# Altium footprint library FP-SMD-Passive.PcbLib: 73 footprints (part 4 of 5)
Each footprint in its own frame and in the unit in brackets; x right, y up, seen from the top. Pads: shape width x height; smd on the part's side, far side on the other; paste and mask are expansions set on the pad; w line width, h text height; cw(c..) or ccw(c..) is an arc to the next point about the centre after c.
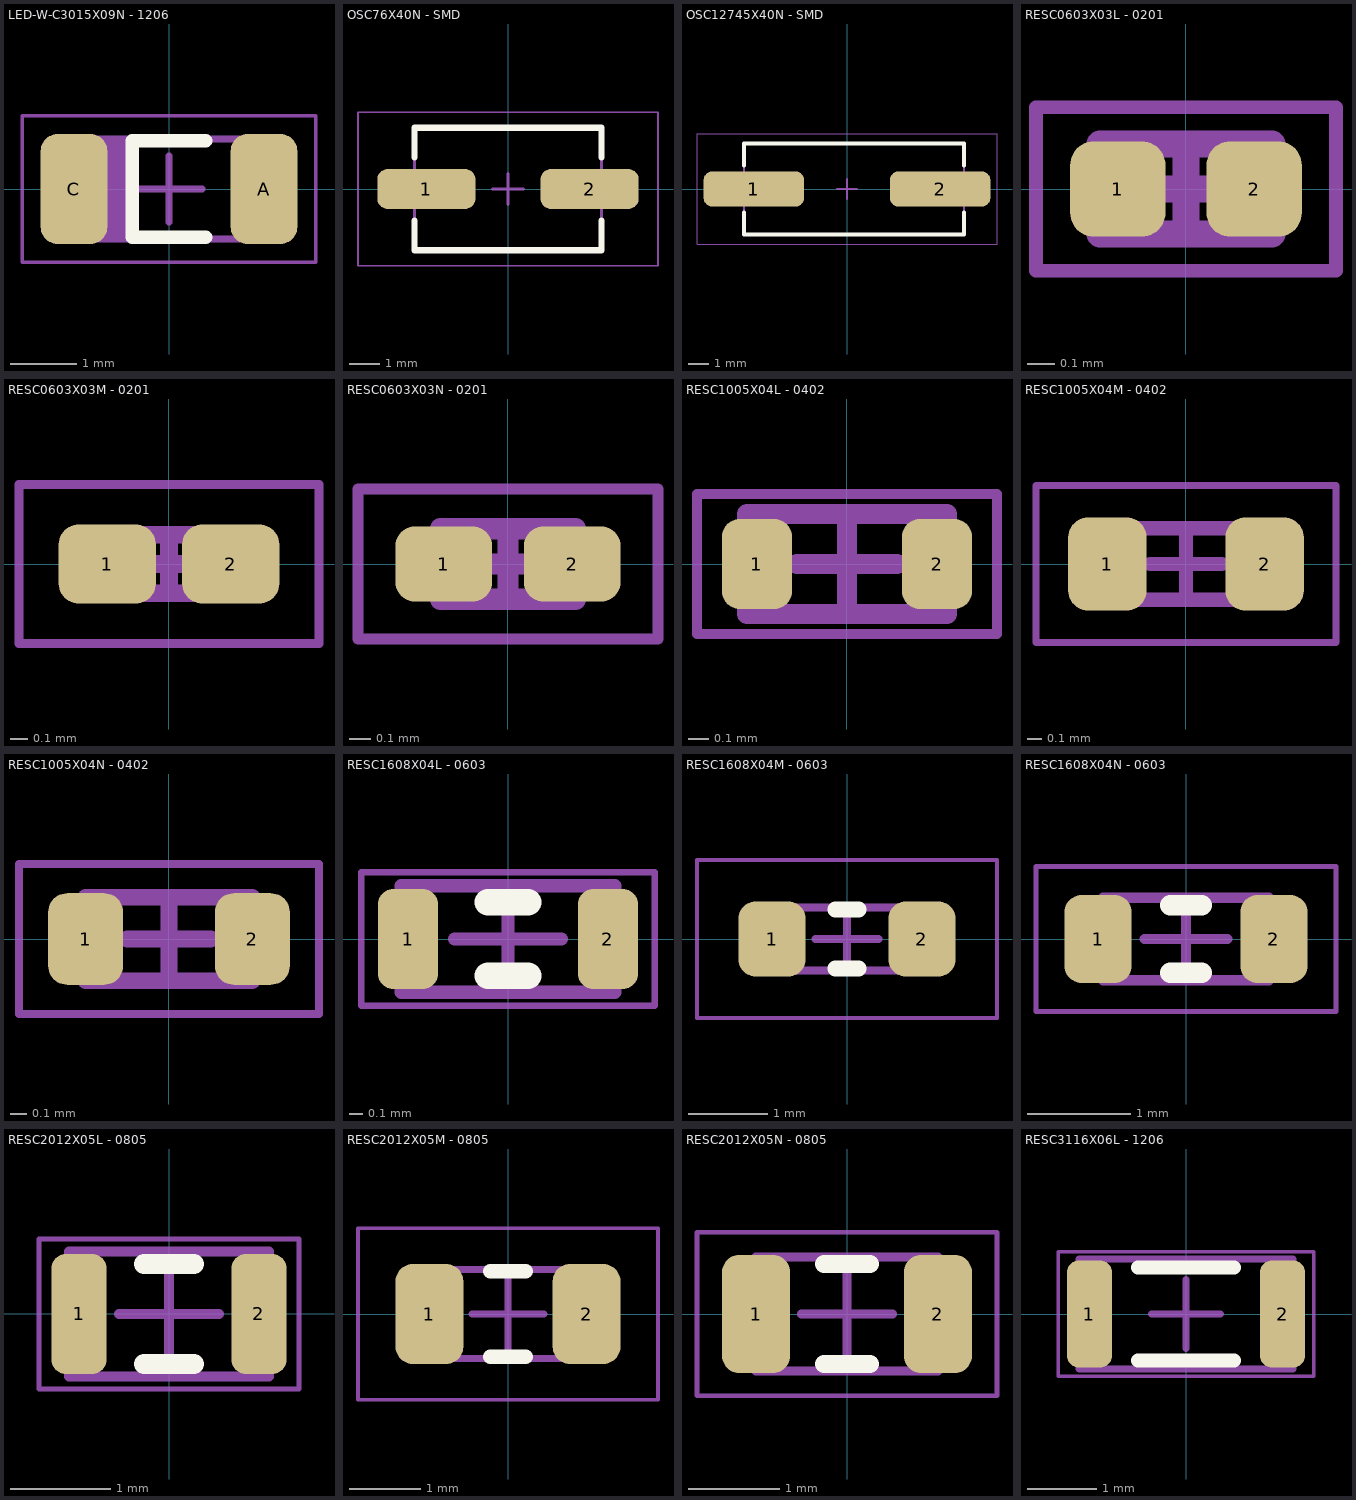
[diagram p3: the footprints below, top view; thin cyan lines are the x and y axes]

## LED-W-C3015X09N - 1206 [mm] "Chip LED, 2-Leads, Body 3/00x1/50mm, IPC Medium Density"
height 0.9
pads (2):
  rrect50% 1x1.65 smd: A(1.425,0) C(-1.425,0)
Top Overlay:
  lines w0.2: 0.55,-0.725 -0.55,-0.725 -0.55,0.725 0.55,0.725
Top Courtyard:
  lines w0.05: -2.2,-1.1 2.2,-1.1 2.2,1.1 -2.2,1.1 -2.2,-1.1
  lines w0.1: -0.5,0 0.5,0 ; 0,-0.5 0,0.5
Top Assembly:
  rectangle: -1.5,-0.762 -0.635,0.75
  lines w0.1: -1.5,-0.75 1.5,-0.75 1.5,0.75 -1.5,0.75 -1.5,-0.75
  text "'.Designator'" at 0.12,0.353 h0.7
3D body "LED SMD 1206 - W.STEP": height 1.1, standoff 0, extent -1.6,-0.8 1.6,0.8

## OSC76X40N - SMD [mm]
height 2.1
pads (2):
  rrect50% 3.2x1.3 smd: 1(-2.667,0) 2(2.667,0)
Top Overlay:
  lines w0.2: -3.05,-1.025 -3.05,-2 3.05,-2 3.05,-1.025 ; -3.05,1.025 -3.05,2 3.05,2 3.05,1.025
Top Courtyard:
  lines w0.05: -4.9,-2.5 4.9,-2.5 4.9,2.5 -4.9,2.5 -4.9,-2.5
  lines w0.1: -0.5,0 0.5,0 ; 0,-0.5 0,0.5
Top Assembly:
  lines w0.1: -3.05,-2 -3.05,2 3.05,2 3.05,-2 -3.05,-2
  text "'.Designator'" at 0.185,0.755 h1.52
3D body "User Library-CSM-3X.STEP": height 2.35, standoff 0.05, extent -3.8,-2.05 3.8,2.05

## OSC12745X40N - SMD [mm] "SMD Crystal Body 11/55x4/50x4/00mm, IPC Medium Density"
height 4
pads (2):
  rrect50% 5x1.75 smd: 1(-4.625,0) 2(4.625,0)
Top Overlay:
  lines w0.2: -5.112,-1.175 -5.112,-2.25 5.8,-2.25 5.8,-1.175 ; -5.112,1.175 -5.112,2.25 5.8,2.25 5.8,1.175
Top Courtyard:
  lines w0.05: -7.45,-2.75 7.45,-2.75 7.45,2.75 -7.45,2.75 -7.45,-2.75
  lines w0.1: -0.5,0 0.5,0 ; 0,-0.5 0,0.5
Top Assembly:
  lines w0.1: -5.112,-2.25 -5.112,2.25 5.8,2.25 5.8,-2.25 -5.112,-2.25
  text "'.Designator'" at 0.312,0.755 h1.52
3D body "smdcrystal.STEP": height 3.85, standoff 0, extent -6.79,-2.4 6.79,2.4

## RESC0603X03L - 0201 [mm] "Chip Resistor, 2-Leads, Body 0/60x0/30mm, IPC High Density"
height 0.26
pads (2):
  rrect50% 0.35x0.35 smd: 1(-0.25,0) 2(0.25,0)
Top Courtyard:
  lines w0.05: -0.55,-0.3 -0.55,0.3 0.55,0.3 0.55,-0.3 -0.55,-0.3
  lines w0.1: -0.165,0 0.165,0 ; 0,-0.165 0,0.165
Top Assembly:
  lines w0.1: -0.315,-0.165 -0.315,0.165 0.315,0.165 0.315,-0.165 -0.315,-0.165
  text "'.Designator'" at 0.1,0.3 h0.6
3D body "RESC0603X03L.step": height 0.26, standoff 0, extent -0.315,-0.165 0.315,0.165

## RESC0603X03M - 0201 [mm] "Chip Resistor, 2-Leads, Body 0/60x0/30mm, IPC Low Density"
height 0.26
pads (2):
  rrect50% 0.55x0.45 smd: 1(-0.35,0) 2(0.35,0)
Top Courtyard:
  lines w0.05: -0.85,-0.45 -0.85,0.45 0.85,0.45 0.85,-0.45 -0.85,-0.45
  lines w0.1: -0.165,0 0.165,0 ; 0,-0.165 0,0.165
Top Assembly:
  lines w0.1: -0.315,-0.165 -0.315,0.165 0.315,0.165 0.315,-0.165 -0.315,-0.165
  text "'.Designator'" at 0.1,0.3 h0.6
3D body "RESC0603X03M.step": height 0.26, standoff 0, extent -0.315,-0.165 0.315,0.165

## RESC0603X03N - 0201 [mm] "Chip Resistor, 2-Leads, Body 0/60x0/30mm, IPC Medium Density"
height 0.26
pads (2):
  rrect50% 0.45x0.35 smd: 1(-0.3,0) 2(0.3,0)
Top Courtyard:
  lines w0.05: -0.7,-0.35 -0.7,0.35 0.7,0.35 0.7,-0.35 -0.7,-0.35
  lines w0.1: -0.165,0 0.165,0 ; 0,-0.165 0,0.165
Top Assembly:
  lines w0.1: -0.315,-0.165 -0.315,0.165 0.315,0.165 0.315,-0.165 -0.315,-0.165
  text "'.Designator'" at 0.1,0.3 h0.6
3D body "RESC0603X03N.step": height 0.26, standoff 0, extent -0.315,-0.165 0.315,0.165

## RESC1005X04L - 0402 [mm] "Chip Resistor, 2-Leads, Body 1/00x0/50mm, IPC High Density"
height 0.35
pads (2):
  rrect50% 0.35x0.45 smd: 1(-0.45,0) 2(0.45,0)
Top Courtyard:
  lines w0.05: -0.75,-0.35 -0.75,0.35 0.75,0.35 0.75,-0.35 -0.75,-0.35
  lines w0.1: -0.25,0 0.25,0 ; 0,-0.25 0,0.25
Top Assembly:
  lines w0.1: -0.5,-0.25 -0.5,0.25 0.5,0.25 0.5,-0.25 -0.5,-0.25
  text "'.Designator'" at 0.1,0.3 h0.6
3D body "RESC1005X04L.step": height 0.35, standoff 0, extent -0.5,-0.25 0.5,0.25

## RESC1005X04M - 0402 [mm] "Chip Resistor, 2-Leads, Body 1/00x0/50mm, IPC Low Density"
height 0.35
pads (2):
  rrect50% 0.55x0.65 smd: 1(-0.55,0) 2(0.55,0)
Top Courtyard:
  lines w0.05: -1.05,-0.55 -1.05,0.55 1.05,0.55 1.05,-0.55 -1.05,-0.55
  lines w0.1: -0.25,0 0.25,0 ; 0,-0.25 0,0.25
Top Assembly:
  lines w0.1: -0.5,-0.25 -0.5,0.25 0.5,0.25 0.5,-0.25 -0.5,-0.25
  text "'.Designator'" at 0.1,0.3 h0.6
3D body "RESC1005X04M.step": height 0.35, standoff 0, extent -0.5,-0.25 0.5,0.25

## RESC1005X04N - 0402 [mm] "Chip Resistor, 2-Leads, Body 1/00x0/50mm, IPC Medium Density"
height 0.35
pads (2):
  rrect50% 0.45x0.55 smd: 1(-0.5,0) 2(0.5,0)
Top Courtyard:
  lines w0.05: -0.9,-0.45 0.9,-0.45 0.9,0.45 -0.9,0.45 -0.9,-0.45
  lines w0.1: -0.25,0 0.25,0 ; 0,-0.25 0,0.25
Top Assembly:
  lines w0.1: -0.5,-0.25 0.5,-0.25 0.5,0.25 -0.5,0.25 -0.5,-0.25
  text "'.Designator'" at 0.1,0.3 h0.6
3D body "RESC1005X04N.step": height 0.35, standoff 0, extent -0.5,-0.25 0.5,0.25

## RESC1608X04L - 0603 [mm] "Chip Resistor, 2-Leads, Body 1/60x0/80mm, IPC High Density"
height 0.45
pads (2):
  rrect50% 0.45x0.75 smd: 1(-0.75,0) 2(0.75,0)
Top Overlay:
  lines w0.2: -0.15,-0.275 0.15,-0.275 ; -0.15,0.275 0.15,0.275
Top Courtyard:
  lines w0.05: -1.1,-0.5 1.1,-0.5 1.1,0.5 -1.1,0.5 -1.1,-0.5
  lines w0.1: -0.4,0 0.4,0 ; 0,-0.4 0,0.4
Top Assembly:
  lines w0.1: -0.8,-0.4 0.8,-0.4 0.8,0.4 -0.8,0.4 -0.8,-0.4
  text "'.Designator'" at 0.1,0.3 h0.6
3D body "RESC1608X04L.step": height 0.45, standoff 0, extent -0.8,-0.4 0.8,0.4

## RESC1608X04M - 0603 [mm] "Chip Resistor, 2-Leads, Body 1/60x0/80mm, IPC Low Density"
height 0.45
pads (2):
  rrect50% 0.85x0.95 smd: 1(-0.95,0) 2(0.95,0)
Top Overlay:
  lines w0.2: -0.15,-0.375 0.15,-0.375 ; -0.15,0.375 0.15,0.375
Top Courtyard:
  lines w0.05: -1.9,-1 -1.9,1 1.9,1 1.9,-1 -1.9,-1
  lines w0.1: -0.4,0 0.4,0 ; 0,-0.4 0,0.4
Top Assembly:
  lines w0.1: -0.8,-0.4 -0.8,0.4 0.8,0.4 0.8,-0.4 -0.8,-0.4
  text "'.Designator'" at 0.1,0.3 h0.6
3D body "RESC1608X04M.step": height 0.45, standoff 0, extent -0.8,-0.4 0.8,0.4

## RESC1608X04N - 0603 [mm] "Chip Resistor, 2-Leads, Body 1/60x0/80mm, IPC Medium Density"
height 0.45
pads (2):
  rrect50% 0.65x0.85 smd: 1(-0.85,0) 2(0.85,0)
Top Overlay:
  lines w0.2: -0.15,-0.325 0.15,-0.325 ; -0.15,0.325 0.15,0.325
Top Courtyard:
  lines w0.05: -1.45,-0.7 1.45,-0.7 1.45,0.7 -1.45,0.7 -1.45,-0.7
  lines w0.1: -0.4,0 0.4,0 ; 0,-0.4 0,0.4
Top Assembly:
  lines w0.1: -0.8,-0.4 0.8,-0.4 0.8,0.4 -0.8,0.4 -0.8,-0.4
  text "'.Designator'" at 0.1,0.3 h0.6
3D body "RESC1608X04N.step": height 0.45, standoff 0, extent -0.8,-0.4 0.8,0.4

## RESC2012X05L - 0805 [mm] "Chip Resistor, 2-Leads, Body 2/00x1/25mm, IPC High Density"
height 0.5
pads (2):
  rrect50% 0.55x1.2 smd: 1(-0.9,0) 2(0.9,0)
Top Overlay:
  lines w0.2: -0.25,-0.5 0.25,-0.5 ; -0.25,0.5 0.25,0.5
Top Courtyard:
  lines w0.05: -1.3,-0.75 1.3,-0.75 1.3,0.75 -1.3,0.75 -1.3,-0.75
  lines w0.1: -0.5,0 0.5,0 ; 0,-0.5 0,0.5
Top Assembly:
  lines w0.1: -1,-0.625 1,-0.625 1,0.625 -1,0.625 -1,-0.625
  text "'.Designator'" at 0.1,0.3 h0.6
3D body "RESC2012X05L.step": height 0.5, standoff 0, extent -1,-0.625 1,0.625

## RESC2012X05M - 0805 [mm] "Chip Resistor, 2-Leads, Body 2/00x1/25mm, IPC Low Density"
height 0.5
pads (2):
  rrect50% 0.95x1.4 smd: 1(-1.1,0) 2(1.1,0)
Top Overlay:
  lines w0.2: -0.25,-0.6 0.25,-0.6 ; -0.25,0.6 0.25,0.6
Top Courtyard:
  lines w0.05: -2.1,-1.2 2.1,-1.2 2.1,1.2 -2.1,1.2 -2.1,-1.2
  lines w0.1: -0.5,0 0.5,0 ; 0,-0.5 0,0.5
Top Assembly:
  lines w0.1: -1,-0.625 1,-0.625 1,0.625 -1,0.625 -1,-0.625
  text "'.Designator'" at 0.1,0.3 h0.6
3D body "RESC2012X05M.step": height 0.5, standoff 0, extent -1,-0.625 1,0.625

## RESC2012X05N - 0805 [mm] "Chip Resistor, 2-Leads, Body 2/00x1/25mm, IPC Medium Density"
height 0.5
pads (2):
  rrect50% 0.75x1.3 smd: 1(-1,0) 2(1,0)
Top Overlay:
  lines w0.2: -0.25,-0.55 0.25,-0.55 ; -0.25,0.55 0.25,0.55
Top Courtyard:
  lines w0.05: -1.65,-0.9 -1.65,0.9 1.65,0.9 1.65,-0.9 -1.65,-0.9
  lines w0.1: -0.5,0 0.5,0 ; 0,-0.5 0,0.5
Top Assembly:
  lines w0.1: -1,-0.625 -1,0.625 1,0.625 1,-0.625 -1,-0.625
  text "'.Designator'" at 0.1,0.3 h0.6
3D body "RESC2012X05N.step": height 0.5, standoff 0, extent -1,-0.625 1,0.625

## RESC3116X06L - 1206 [mm] "Chip Resistor, 2-Leads, Body 3/10x1/60mm, IPC High Density"
height 0.55
pads (2):
  rrect50% 0.65x1.55 smd: 1(-1.4,0) 2(1.4,0)
Top Overlay:
  lines w0.2: -0.7,-0.675 0.7,-0.675 ; -0.7,0.675 0.7,0.675
Top Courtyard:
  lines w0.05: -1.85,-0.9 1.85,-0.9 1.85,0.9 -1.85,0.9 -1.85,-0.9
  lines w0.1: -0.5,0 0.5,0 ; 0,-0.5 0,0.5
Top Assembly:
  lines w0.1: -1.55,-0.8 1.55,-0.8 1.55,0.8 -1.55,0.8 -1.55,-0.8
  text "'.Designator'" at 0.1,0.3 h0.6
3D body "RESC3116X06L.step": height 0.55, standoff 0, extent -1.55,-0.8 1.55,0.8